# EAGLE library part LMR33610ADDAR (library SW_BuckBoost)
Buck Switching Regulator IC Positive Adjustable 1V 1 Output 1A 8-PowerSOIC (0.154", 3.90mm Width)
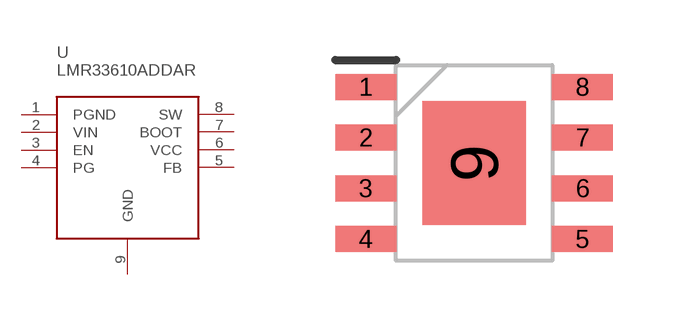
[diagram p1: symbol with the pads of SOIC-8-EP; footprint SOIC-8-EP]

Designator prefix U

## LMR33610ADDARLMR336 (CATEGORY: Power; DESCRIPTION: SIMPLE SWITCHER 3.8V to 36V, 1A Synchronous Buck Converter With Ultra-Low EMI; MFGS: Texas Instruments; MPNS: LMR33610ADDAR; PACKAGE: PPSOIC-8; PART_NUMBER: LMR33610ADDAR; SW_PART_NUMBER: SW0000834), LMR33610ADDARLMR33630ADDARLMR336 (CATEGORY: Power; DESCRIPTION: SIMPLE SWITCHER 3.8V to 36V, 3A Synchronous Buck Converter With Ultra-Low EMI; MFGS: Texas Instruments; MPNS: LMR33630ADDAR; PACKAGE: PPSOIC-8; PART_NUMBER: LMR33630ADDAR; SW_PART_NUMBER: SW0000835)  [SOIC-8-EP]
1  PGND
2  VIN
3  EN
4  PG
5  FB
6  VCC
7  BOOT
8  SW
9  GND

## Footprint SOIC-8-EP (pad centres in mm)
LMR33630ADDAR
smd 1.525 x 0.65: 1 -2.712,1.905; 2 -2.712,0.635; 3 -2.712,-0.635; 4 -2.712,-1.905; 5 2.712,-1.905; 6 2.712,-0.635; 7 2.712,0.635; 8 2.712,1.905
smd 2.6 x 3.1: 9 0,0